# Altium schematic symbol library LT1931.Schlib: 1 symbol
Pins are listed as number, name and electrical type; pins without a type are passive.

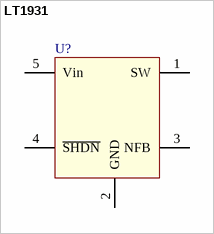
[diagram p0: symbol LT1931]

## LT1931
designator U?
pins: 1 SW, 2 GND, 3 NFB, 4 ~{SHDN}, 5 Vin